# Altium footprint library Pulse.PcbLib: 3 footprints
Each footprint in its own frame and in the unit in brackets; x right, y up, seen from the top. Pads: shape width x height; smd on the part's side, far side on the other; paste and mask are expansions set on the pad; w line width, h text height; cw(c..) or ccw(c..) is an arc to the next point about the centre after c.
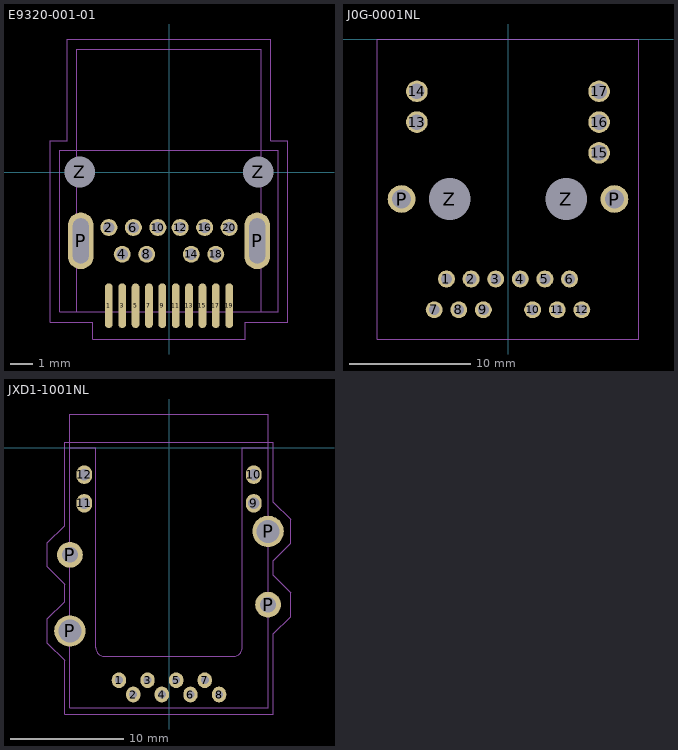
[diagram p0: the footprints below, top view; thin cyan lines are the x and y axes]

## E9320-001-01 [mm] "Pulse E9320-001-01 Mini-DisplayPort Receptacle"
height 8.7
pads (24):
  oval 0.35x2 smd mask+0.051: 1(-2.7,-6) 3(-2.1,-6) 5(-1.5,-6) 7(-0.9,-6) 9(-0.3,-6) 11(0.3,-6) 13(0.9,-6) 15(1.5,-6) 17(2.1,-6) 19(2.7,-6)
  round 0.762 hole 0.508 mask+0.051: 2(-2.7,-2.49) 4(-2.1,-3.69) 6(-1.6,-2.49) 8(-1,-3.69) 10(-0.5,-2.49) 12(0.5,-2.49) 14(1,-3.69) 16(1.6,-2.49) 18(2.1,-3.69) 20(2.7,-2.49)
  oval 1.143x2.54 hole 0.711 slot 2.032 at 90 deg mask+0.051: P(-3.96,-3.09) P(3.96,-3.09)
  round 1 hole 1.372 unplated mask+0.254: Z(-4,0) Z(4,0)
Top Designator:
  text ".Designator" at -3.242,-0.317 h0.89
Top Courtyard:
  lines w0.025: -5.334,-6.731 -3.429,-6.731 -3.429,-7.493 3.429,-7.493 3.429,-6.731 5.334,-6.731 5.334,1.397 4.572,1.397 4.572,5.969 -4.572,5.969 -4.572,1.397 -5.334,1.397 -5.334,-6.731
Top Component Outline:
  lines w0.025: -4.15,-6.28 -4.15,5.52 4.15,5.52 4.15,-6.28 ; -4.9,-6.28 4.9,-6.28 4.9,0.97 -4.9,0.97 -4.9,-6.28
Multi-Layer:
  pour cut-out: 4,-0.889 4.088,-0.889 4.259,-0.855 4.421,-0.788 4.567,-0.691 4.691,-0.567 4.788,-0.421 4.855,-0.259 4.889,-0.088 4.889,0 4.889,0.088 4.855,0.259 4.788,0.421 4.691,0.567 4.567,0.691 4.421,0.788 4.259,0.855 4.088,0.889 4,0.889 3.912,0.889 3.741,0.855 3.579,0.788 3.433,0.691 3.309,0.567 3.212,0.421 3.145,0.259 3.111,0.088 3.111,0 3.111,-0.088 3.145,-0.259 3.212,-0.421 3.309,-0.567 3.433,-0.691 3.579,-0.788 3.741,-0.855 3.912,-0.889
  pour cut-out: -4,-0.889 -3.912,-0.889 -3.741,-0.855 -3.579,-0.788 -3.433,-0.691 -3.309,-0.567 -3.212,-0.421 -3.145,-0.259 -3.111,-0.088 -3.111,0 -3.111,0.088 -3.145,0.259 -3.212,0.421 -3.309,0.567 -3.433,0.691 -3.579,0.788 -3.741,0.855 -3.912,0.889 -4,0.889 -4.088,0.889 -4.259,0.855 -4.421,0.788 -4.567,0.691 -4.691,0.567 -4.788,0.421 -4.855,0.259 -4.889,0.088 -4.889,0 -4.889,-0.088 -4.855,-0.259 -4.788,-0.421 -4.691,-0.567 -4.567,-0.691 -4.421,-0.788 -4.259,-0.855 -4.088,-0.889
3D body: height 8.7, standoff 3.17, extent -4.15,-6.28 4.15,5.52
3D body: height 3.3, standoff 0, extent -4.9,-6.28 4.9,0.97

## J0G-0001NL [mil] "Pulse J0G-0001NL Giga Ethernet Jack"
pads (21):
  round 55 hole 35: 1(-200,-780) 2(-120,-780) 3(-40,-780) 4(40,-780) 5(120,-780) 6(200,-780) 7(-240,-880) 8(-160,-880) 9(-80,-880) 10(80,-880) 11(160,-880) 12(240,-880)
  round 70 hole 50: 13(-296,-270) 14(-296,-170) 15(296,-370) 16(296,-270) 17(296,-170)
  round 90 hole 62: P(-346,-520) P(346,-520)
  round 130 hole 135 unplated mask+8: Z(-190,-520) Z(190,-520)
Top Designator:
  text ".Designator" at -127.64,-532.5 h35
Top Courtyard:
  lines w1: -425,-975 -425,0 425,0 425,-975 -425,-975
Multi-Layer:
  pour cut-out: -190,-440 -182.12,-440 -166.66,-443.07 -152.11,-449.1 -139,-457.86 -127.86,-469 -119.1,-482.11 -113.07,-496.66 -110,-512.12 -110,-520 -110,-527.88 -113.07,-543.34 -119.1,-557.89 -127.86,-571 -139,-582.14 -152.11,-590.89 -166.66,-596.93 -182.12,-600 -190,-600 -197.88,-600 -213.34,-596.93 -227.89,-590.89 -241,-582.14 -252.14,-571 -260.89,-557.89 -266.93,-543.34 -270,-527.88 -270,-520 -270,-512.12 -266.93,-496.66 -260.89,-482.11 -252.14,-469 -241,-457.86 -227.89,-449.1 -213.34,-443.07 -197.88,-440
  pour cut-out: 190,-440 197.88,-440 213.34,-443.07 227.89,-449.1 241,-457.86 252.14,-469 260.89,-482.11 266.93,-496.66 270,-512.12 270,-520 270,-527.88 266.93,-543.34 260.89,-557.89 252.14,-571 241,-582.14 227.89,-590.89 213.34,-596.93 197.88,-600 190,-600 182.12,-600 166.66,-596.93 152.11,-590.89 139,-582.14 127.86,-571 119.1,-557.89 113.07,-543.34 110,-527.88 110,-520 110,-512.12 113.07,-496.66 119.1,-482.11 127.86,-469 139,-457.86 152.11,-449.1 166.66,-443.07 182.12,-440
3D body "J0G-0001NL.STEP": height 504.79, standoff -140, extent -409.8,-950.01 409.78,19.99

## JXD1-1001NL [mil]
pads (16):
  oval 50x55 hole 28: 1(-175,-812) 2(-125,-862) 3(-75,-812) 4(-25,-862) 5(25,-812) 6(75,-862) 7(125,-812) 8(175,-862)
  oval 55x65 hole 40: 9(296,-194) 10(296,-94) 11(-296,-194) 12(-296,-94)
  round 110 hole 80: P(-346,-640) P(346,-292)
  round 90 hole 55: P(-346,-374) P(346,-548)
Top Designator:
  text ".Designator" at -127.64,-412.5 h35
Top Courtyard:
  lines w1: -425,-682 -365,-742 -365,-930 365,-930 365,-650 425,-590 425,-548 425,-506 365,-446 365,-394 425,-334 425,-292 425,-250 365,-190 365,20 -365,20 -365,-272 -425,-332 -425,-374 -425,-416 -365,-476 -365,-538 -425,-598 -425,-640 -425,-682
Top Component Outline:
  lines w1: -346,0 -256,0 -256,-698 ccw(c-226,-698) -226,-728 226,-728 ccw(c226,-698) 256,-698 256,0 346,0 ; -346,-908 346,-908 346,118 -346,118 -346,-908
3D body "JXD1-1001NL.STEP": height 399.96, standoff -131.03, extent -401.16,-908 401.16,117.99